# EAGLE library part 4816P-TO2E (library resistor-bourns)
BOURNS RESISTOR NETWORK
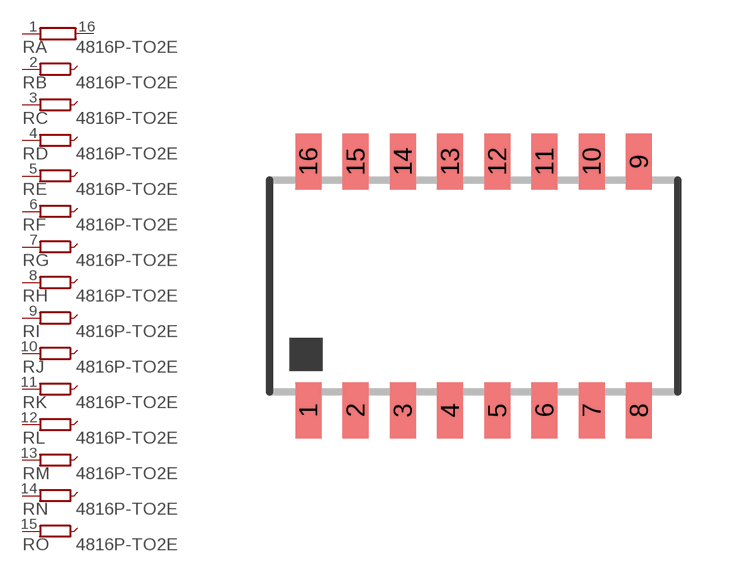
[diagram p16: symbol with the pads of 4816P; footprint 4816P]

Designator prefix R; gates A=R1NV B=R1NVXX C=R1NVXX D=R1NVXX E=R1NVXX F=R1NVXX G=R1NVXX H=R1NVXX I=R1NVXX J=R1NVXX K=R1NVXX L=R1NVXX M=R1NVXX N=R1NVXX O=R1NVXX

## 4816P-TO2E (OC_FARNELL: unknown; OC_NEWARK: unknown)  [4816P]
1  A:1  pas
2  B:1  pas
3  C:1  pas
4  D:1  pas
5  E:1  pas
6  F:1  pas
7  G:1  pas
8  H:1  pas
9  I:1  pas
10  J:1  pas
11  K:1  pas
12  L:1  pas
13  M:1  pas
14  N:1  pas
15  O:1  pas
16  A:2  pas

## Footprint 4816P (pad centres in mm)
BOURNS RESISTOR NETWORK
smd 0.7 x 1.5: 1 -4.445,-3.346; 2 -3.175,-3.346; 3 -1.905,-3.346; 4 -0.635,-3.346; 5 0.635,-3.346; 6 1.905,-3.346; 7 3.175,-3.346; 8 4.445,-3.346; 9 4.445,3.346; 10 3.175,3.346; 11 1.905,3.346; 12 0.635,3.346; 13 -0.635,3.346; 14 -1.905,3.346; 15 -3.175,3.346; 16 -4.445,3.346